# EAGLE library part 74HCT166N (library NXP_By_element14_Batch_1)
8-bit parallel-in/serial-out shift register
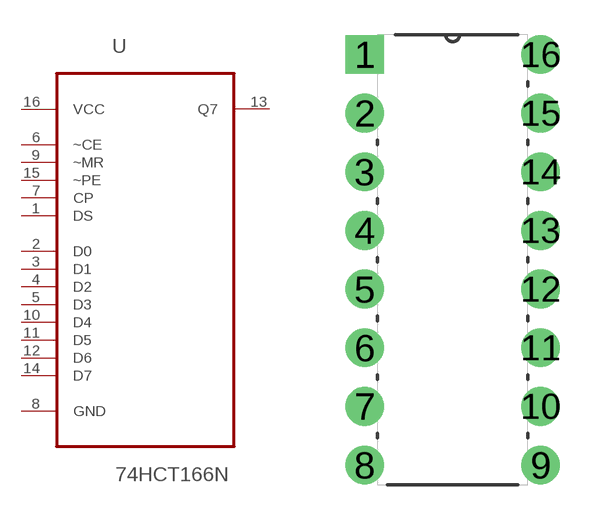
[diagram p185: symbol with the pads of DIP254P762X420-16; footprint DIP254P762X420-16]

Designator prefix U

## 74HCT166N (MPN: 74HCT166N; OC_FARNELL: 382152; OC_NEWARK: 07WX3558; P1I: o; PACKAGE: DIP-16; SUPPLIER: NXP)  [DIP254P762X420-16]
1  DS  in
2  D0  in
3  D1  in
4  D2  in
5  D3  in
6  ~CE  in
7  CP  in
8  GND  pas
9  ~MR  in
10  D4  in
11  D5  in
12  D6  in
13  Q7  out
14  D7  in
15  ~PE  in
16  VCC  pwr

## Footprint DIP254P762X420-16 (pad centres in mm)
drill 1.118 square: 1 -7.62,17.78
drill 1.118: 2 -7.62,15.24; 3 -7.62,12.7; 4 -7.62,10.16; 5 -7.62,7.62; 6 -7.62,5.08; 7 -7.62,2.54; 8 -7.62,0; 9 0,0; 10 0,2.54; 11 0,5.08; 12 0,7.62; 13 0,10.16; 14 0,12.7; 15 0,15.24; 16 0,17.78